# Altium footprint library TE_5-534998-8.PcbLib: 1 footprints
Each footprint in its own frame and in the unit in brackets; x right, y up, seen from the top. Pads: shape width x height; smd on the part's side, far side on the other; paste and mask are expansions set on the pad; w line width, h text height; cw(c..) or ccw(c..) is an arc to the next point about the centre after c.
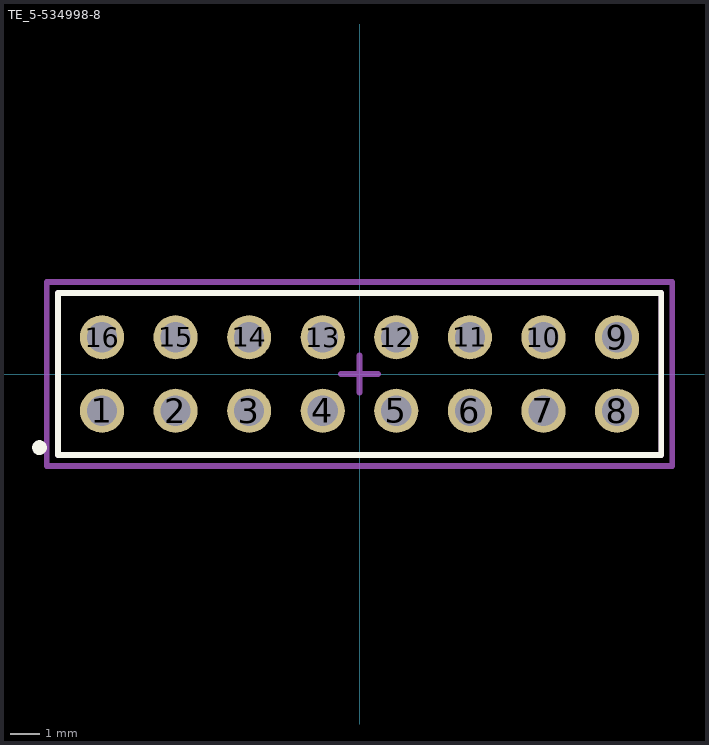
[diagram p0: the footprint, top view; thin cyan lines are the x and y axes]

## TE_5-534998-8 [mil]
pads (16):
  round 60 hole 41: 1(-350,-50) 2(-250,-50) 3(-150,-50) 4(-50,-50) 5(50,-50) 6(150,-50) 7(250,-50) 8(350,-50) 9(350,50) 10(250,50) 11(150,50) 12(50,50) 13(-50,50) 14(-150,50) 15(-250,50) 16(-350,50)
Top Overlay:
  circle w10: c-435,-100 r5
  lines w7.87: -410,-110 -410,110 410,110 410,-110 -410,-110
Mechanical 15:
  lines w7.87: -25,0 25,0 ; 0,-25 0,25 ; -425,-125 425,-125 425,125 -425,125 -425,-125
Mechanical 17:
  lines w7.87: -410,-110 410,-110 410,110 -410,110 -410,-110
  text ".Designator" at -375,-75 h60
Mechanical 19:
  lines w7.87: -410,-110 410,-110 410,110 -410,110 -410,-110
  text ".Comment" at -375,-80 h60
3D body: height 265, standoff -125, extent -400,-98.99 400,99